# EAGLE library part OLED_THRU (library foe-scale)
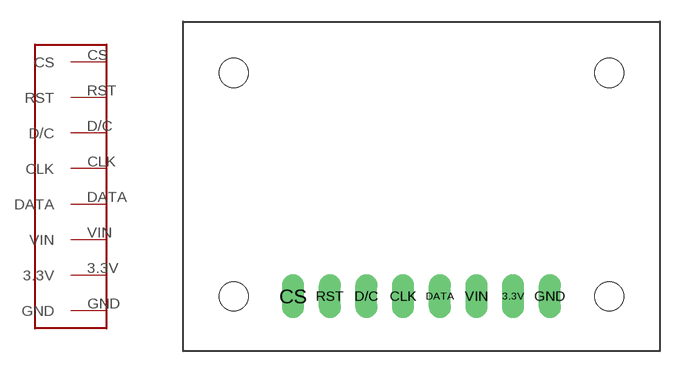
[diagram p8: symbol with the pads of OLED_THRU; footprint OLED_THRU]

Designator prefix -

## OLED_THRU  [OLED_THRU]
3.3V  3.3V
CLK  CLK
CS  CS
D/C  D/C
DATA  DATA
GND  GND
RST  RST
VIN  VIN

## Footprint OLED_THRU (pad centres in mm)
drill 1.016 long: 3.3V 6.35,0; CLK -1.27,0; CS -8.89,0; D/C -3.81,0; DATA 1.27,0; GND 8.89,0; RST -6.35,0; VIN 3.81,0
hole 2.032 at -13,0
hole 2.032 at 13,0
hole 2.032 at -13,15.5
hole 2.032 at 13,15.5